# EAGLE library part LM386 (library ECE5_Speaker_V2)
LM386 LM386: http://smallbear-electronics.mybigcommerce.com/ic-lm386-n3/
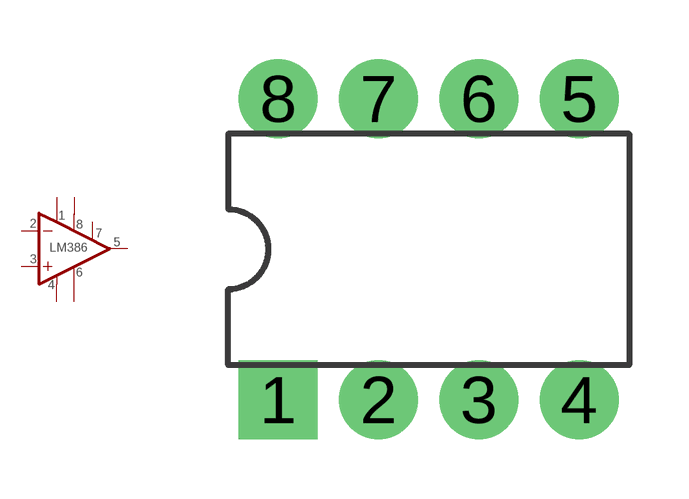
[diagram p0: symbol with the pads of LM386_DIP08; footprint LM386_DIP08]

Designator prefix IC

## LM386 (AVAILABILITY: Unavailable; MF: National Semiconductor; MP: LM386; PACKAGE: SOIC-8 National Semiconductor; PRICE: None)  [LM386_DIP08]
1  GAIN1_1  pas
2  -IN_2  in
3  +IN_3  in
4  V-_4  in
5  OUT_5  out
6  V+_6  in
7  BYPASS_7  pas
8  GAIN2_8  pas

## Footprint LM386_DIP08 (pad centres in mm)
Dual In Line Package
drill 1 pad 2 square: 1 -3.81,-3.81
drill 1 pad 2: 2 -1.27,-3.81; 3 1.27,-3.81; 4 3.81,-3.81; 5 3.81,3.81; 6 1.27,3.81; 7 -1.27,3.81; 8 -3.81,3.81